# Altium schematic symbol library Chrono_dot.SchLib: 4 symbols
Pins are listed as number, name and electrical type; pins without a type are passive.

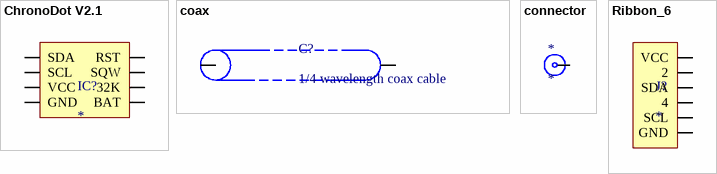
[diagram p0: symbols ChronoDot V2.1 to Ribbon_6]

## ChronoDot V2.1
designator IC?
CHRONODOT - ULTRA-PRECISE RTC
footprint ChronoDot
pins: 1 GND, 2 VCC, 3 SCL, 4 SDA, 5 BAT, 6 32K, 7 SQW, 8 RST

## coax
designator C?, comment 1/4 wavelength coax cable
pins: 5, 6

## connector
designator *
pins: 7

## Ribbon_6
designator J?
CONN DIP HDR IDC 6POS VERT
footprint Ribbon6
footprint Ribbon62
pins: 1 VCC, 2, 3 SDA, 4, 5 SCL, 6 GND